# Altium schematic symbol library Schlib_resistor.SchLib: 1 symbol
Pins are listed as number, name and electrical type; pins without a type are passive.

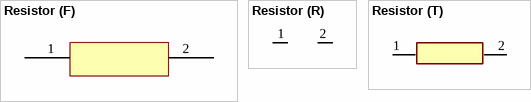
[diagram p0: symbol Resistor]

## Resistor
designator R?, comment resistor SMD  (value not drawn)
500mW Thick Film Resistors 400V ±100ppm/℃ ±1% 100Ω 1210 Chip Resistor - Surface Mount ROHS; Manufacturer: PANASONIC; Manufacturer part Number: ERJ-U14F1000U; ComponentLink1Description: Datasheet; ComponentLink1URL: https://www.lcsc.com/datasheet/lcsc_datasheet_2201131530_PANASONIC-ERJ-U14F1000U_C1014086.pdf; Supplier: Lcsc; Supplier part number: C1014086
footprint RESC1005X04N (Chip Resistor, 2-Leads, Body 1.00x0.50mm, IPC Medium Density)
part F pins: 1, 2
part R pins: 1, 2
part T pins: 1, 2